# EAGLE library part FTSH-105-XX-XX-D (library connector)
0.050"X0.050" CL THROUGH HOLE TERMINAL STRIP ASSEMBLY,10 PINS.
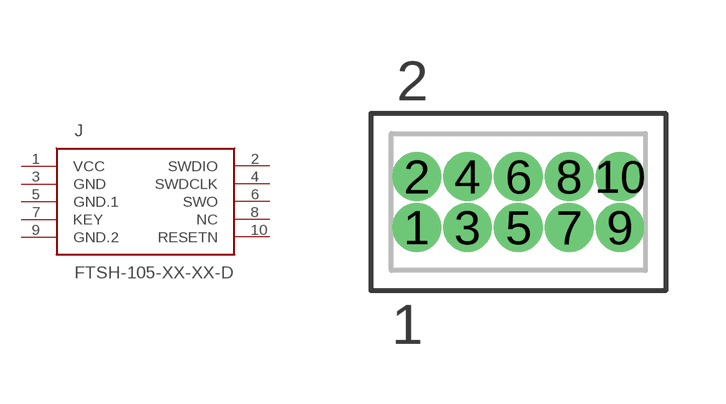
[diagram p7: symbol with the pads of FTSH-105-XX-XX-D; footprint FTSH-105-XX-XX-D]

Designator prefix J

## FTSH-105-XX-XX-D  [FTSH-105-XX-XX-D]
1  VCC
2  SWDIO
3  GND
4  SWDCLK
5  GND.1
6  SWO
7  KEY
8  NC
9  GND.2
10  RESETN

## Footprint FTSH-105-XX-XX-D (pad centres in mm)
0.050"X0.050" CL THROUGH HOLE TERMINAL STRIP ASSEMBLY, 10PINS.
drill 0.711 pad 1.016: 1 -2.54,-0.635; 2 -2.54,0.635; 3 -1.27,-0.635; 4 -1.27,0.635; 5 0,-0.635; 6 0,0.635; 7 1.27,-0.635; 8 1.27,0.635; 9 2.54,-0.635; 10 2.54,0.635